# EAGLE library part 8051F002 (library cygnal)
8051F002
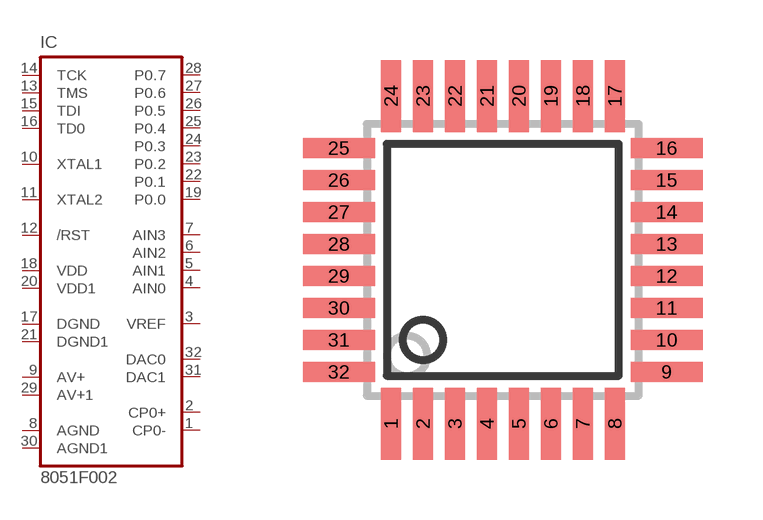
[diagram p0: symbol with the pads of LQFP32; footprint LQFP32]

Designator prefix IC

## 8051F002  [LQFP32]
1  CP0-  in
2  CP0+  in
3  VREF  out
4  AIN0  in
5  AIN1  in
6  AIN2  in
7  AIN3  in
8  AGND  pwr
9  AV+  pwr
10  XTAL1  in
11  XTAL2  out
12  /RST  in
13  TMS  in
14  TCK  in
15  TDI  in
16  TD0  out
17  DGND  pwr
18  VDD  pwr
19  P0.0
20  VDD1  pwr
21  DGND1  pwr
22  P0.1
23  P0.2
24  P0.3
25  P0.4
26  P0.5
27  P0.6
28  P0.7
29  AV+1  pwr
30  AGND1  pwr
31  DAC1  out
32  DAC0  out

## Footprint LQFP32 (pad centres in mm)
LQFP32
smd 0.5 x 1.8: 1 -2.8,-4.1; 2 -2,-4.1; 3 -1.2,-4.1; 4 -0.4,-4.1; 5 0.4,-4.1; 6 1.2,-4.1; 7 2,-4.1; 8 2.8,-4.1; 17 2.8,4.1; 18 2,4.1; 19 1.2,4.1; 20 0.4,4.1; 21 -0.4,4.1; 22 -1.2,4.1; 23 -2,4.1; 24 -2.8,4.1
smd 1.8 x 0.5: 9 4.1,-2.8; 10 4.1,-2; 11 4.1,-1.2; 12 4.1,-0.4; 13 4.1,0.4; 14 4.1,1.2; 15 4.1,2; 16 4.1,2.8; 25 -4.1,2.8; 26 -4.1,2; 27 -4.1,1.2; 28 -4.1,0.4; 29 -4.1,-0.4; 30 -4.1,-1.2; 31 -4.1,-2; 32 -4.1,-2.8